# Altium schematic symbol library SCH - MCU - STM32 - ST MICROELECTRONICS STM32F217Z(E-G)TX LQFP144.SchLib: 1 symbol
Pins are listed as number, name and electrical type; pins without a type are passive.

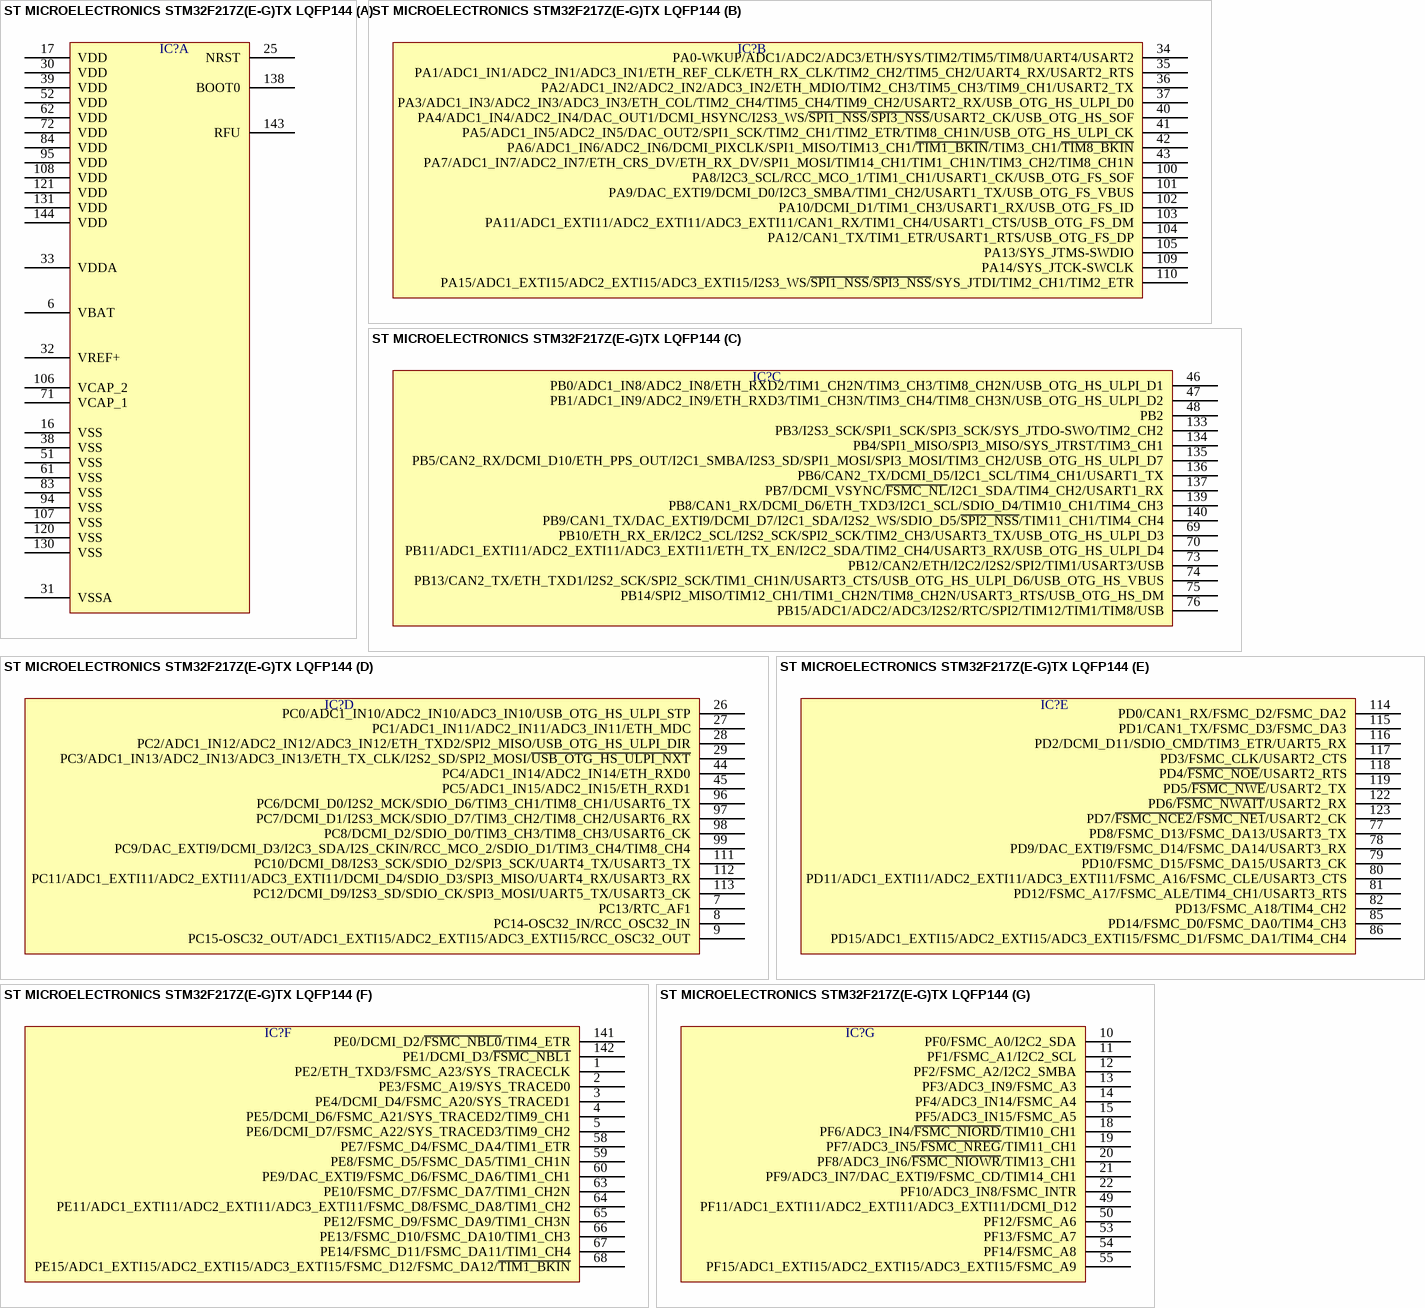
[diagram p0: symbol ST MICROELECTRONICS STM32F217Z(E-G)TX LQFP144]

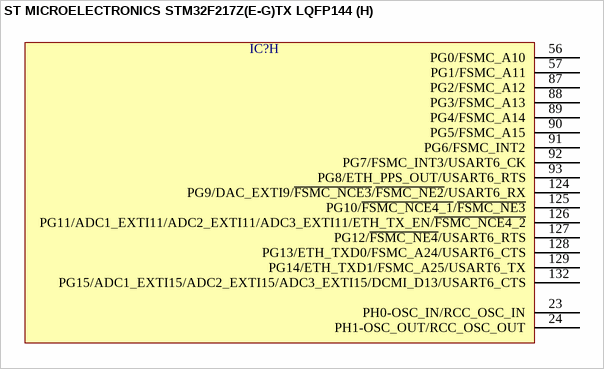
[diagram p1: symbol ST MICROELECTRONICS STM32F217Z(E-G)TX LQFP144]

## ST MICROELECTRONICS STM32F217Z(E-G)TX LQFP144
designator IC?  (value not drawn)
part A pins: 6 VBAT, 16 VSS, 17 VDD, 25 NRST, 30 VDD, 31 VSSA, 32 VREF+, 33 VDDA, 38 VSS, 39 VDD, 51 VSS, 52 VDD, 61 VSS, 62 VDD, 71 VCAP_1, 72 VDD, 83 VSS, 84 VDD, 94 VSS, 95 VDD, 106 VCAP_2, 107 VSS, 108 VDD, 120 VSS, 121 VDD, 130 VSS, 131 VDD, 138 BOOT0, 143 RFU, 144 VDD
part B pins: 34 PA0-WKUP/ADC1/ADC2/ADC3/ETH/SYS/TIM2/TIM5/TIM8/UART4/USART2, 35 PA1/ADC1_IN1/ADC2_IN1/ADC3_IN1/ETH_REF_CLK/ETH_RX_CLK/TIM2_CH2/TIM5_CH2/UART4_RX/USART2_RTS, 36 PA2/ADC1_IN2/ADC2_IN2/ADC3_IN2/ETH_MDIO/TIM2_CH3/TIM5_CH3/TIM9_CH1/USART2_TX, 37 PA3/ADC1_IN3/ADC2_IN3/ADC3_IN3/ETH_COL/TIM2_CH4/TIM5_CH4/TIM9_CH2/USART2_RX/USB_OTG_HS_ULPI_D0, 40 PA4/ADC1_IN4/ADC2_IN4/DAC_OUT1/DCMI_HSYNC/I2S3_WS/~{SPI1_NSS}/~{SPI3_NSS}/USART2_CK/USB_OTG_HS_SOF, 41 PA5/ADC1_IN5/ADC2_IN5/DAC_OUT2/SPI1_SCK/TIM2_CH1/TIM2_ETR/TIM8_CH1N/USB_OTG_HS_ULPI_CK, 42 PA6/ADC1_IN6/ADC2_IN6/DCMI_PIXCLK/SPI1_MISO/TIM13_CH1/~{TIM1_BKIN}/TIM3_CH1/~{TIM8_BKIN}, 43 PA7/ADC1_IN7/ADC2_IN7/ETH_CRS_DV/ETH_RX_DV/SPI1_MOSI/TIM14_CH1/TIM1_CH1N/TIM3_CH2/TIM8_CH1N, 100 PA8/I2C3_SCL/RCC_MCO_1/TIM1_CH1/USART1_CK/USB_OTG_FS_SOF, 101 PA9/DAC_EXTI9/DCMI_D0/I2C3_SMBA/TIM1_CH2/USART1_TX/USB_OTG_FS_VBUS, 102 PA10/DCMI_D1/TIM1_CH3/USART1_RX/USB_OTG_FS_ID, 103 PA11/ADC1_EXTI11/ADC2_EXTI11/ADC3_EXTI11/CAN1_RX/TIM1_CH4/USART1_CTS/USB_OTG_FS_DM, 104 PA12/CAN1_TX/TIM1_ETR/USART1_RTS/USB_OTG_FS_DP, 105 PA13/SYS_JTMS-SWDIO, 109 PA14/SYS_JTCK-SWCLK, 110 PA15/ADC1_EXTI15/ADC2_EXTI15/ADC3_EXTI15/I2S3_WS/~{SPI1_NSS}/~{SPI3_NSS}/SYS_JTDI/TIM2_CH1/TIM2_ETR
part C pins: 46 PB0/ADC1_IN8/ADC2_IN8/ETH_RXD2/TIM1_CH2N/TIM3_CH3/TIM8_CH2N/USB_OTG_HS_ULPI_D1, 47 PB1/ADC1_IN9/ADC2_IN9/ETH_RXD3/TIM1_CH3N/TIM3_CH4/TIM8_CH3N/USB_OTG_HS_ULPI_D2, 48 PB2, 69 PB10/ETH_RX_ER/I2C2_SCL/I2S2_SCK/SPI2_SCK/TIM2_CH3/USART3_TX/USB_OTG_HS_ULPI_D3, 70 PB11/ADC1_EXTI11/ADC2_EXTI11/ADC3_EXTI11/ETH_TX_EN/I2C2_SDA/TIM2_CH4/USART3_RX/USB_OTG_HS_ULPI_D4, 73 PB12/CAN2/ETH/I2C2/I2S2/SPI2/TIM1/USART3/USB, 74 PB13/CAN2_TX/ETH_TXD1/I2S2_SCK/SPI2_SCK/TIM1_CH1N/USART3_CTS/USB_OTG_HS_ULPI_D6/USB_OTG_HS_VBUS, 75 PB14/SPI2_MISO/TIM12_CH1/TIM1_CH2N/TIM8_CH2N/USART3_RTS/USB_OTG_HS_DM, 76 PB15/ADC1/ADC2/ADC3/I2S2/RTC/SPI2/TIM12/TIM1/TIM8/USB, 133 PB3/I2S3_SCK/SPI1_SCK/SPI3_SCK/SYS_JTDO-SWO/TIM2_CH2, 134 PB4/SPI1_MISO/SPI3_MISO/SYS_JTRST/TIM3_CH1, 135 PB5/CAN2_RX/DCMI_D10/ETH_PPS_OUT/I2C1_SMBA/I2S3_SD/SPI1_MOSI/SPI3_MOSI/TIM3_CH2/USB_OTG_HS_ULPI_D7, 136 PB6/CAN2_TX/DCMI_D5/I2C1_SCL/TIM4_CH1/USART1_TX, 137 PB7/DCMI_VSYNC/~{FSMC_NL}/I2C1_SDA/TIM4_CH2/USART1_RX, 139 PB8/CAN1_RX/DCMI_D6/ETH_TXD3/I2C1_SCL/SDIO_D4/TIM10_CH1/TIM4_CH3, 140 PB9/CAN1_TX/DAC_EXTI9/DCMI_D7/I2C1_SDA/I2S2_WS/SDIO_D5/~{SPI2_NSS}/TIM11_CH1/TIM4_CH4
part D pins: 7 PC13/RTC_AF1, 8 PC14-OSC32_IN/RCC_OSC32_IN, 9 PC15-OSC32_OUT/ADC1_EXTI15/ADC2_EXTI15/ADC3_EXTI15/RCC_OSC32_OUT, 26 PC0/ADC1_IN10/ADC2_IN10/ADC3_IN10/USB_OTG_HS_ULPI_STP, 27 PC1/ADC1_IN11/ADC2_IN11/ADC3_IN11/ETH_MDC, 28 PC2/ADC1_IN12/ADC2_IN12/ADC3_IN12/ETH_TXD2/SPI2_MISO/USB_OTG_HS_ULPI_DIR, 29 PC3/ADC1_IN13/ADC2_IN13/ADC3_IN13/ETH_TX_CLK/I2S2_SD/SPI2_MOSI/~{USB_OTG_HS_ULPI_NXT}, 44 PC4/ADC1_IN14/ADC2_IN14/ETH_RXD0, 45 PC5/ADC1_IN15/ADC2_IN15/ETH_RXD1, 96 PC6/DCMI_D0/I2S2_MCK/SDIO_D6/TIM3_CH1/TIM8_CH1/USART6_TX, 97 PC7/DCMI_D1/I2S3_MCK/SDIO_D7/TIM3_CH2/TIM8_CH2/USART6_RX, 98 PC8/DCMI_D2/SDIO_D0/TIM3_CH3/TIM8_CH3/USART6_CK, 99 PC9/DAC_EXTI9/DCMI_D3/I2C3_SDA/I2S_CKIN/RCC_MCO_2/SDIO_D1/TIM3_CH4/TIM8_CH4, 111 PC10/DCMI_D8/I2S3_SCK/SDIO_D2/SPI3_SCK/UART4_TX/USART3_TX, 112 PC11/ADC1_EXTI11/ADC2_EXTI11/ADC3_EXTI11/DCMI_D4/SDIO_D3/SPI3_MISO/UART4_RX/USART3_RX, 113 PC12/DCMI_D9/I2S3_SD/SDIO_CK/SPI3_MOSI/UART5_TX/USART3_CK
part E pins: 77 PD8/FSMC_D13/FSMC_DA13/USART3_TX, 78 PD9/DAC_EXTI9/FSMC_D14/FSMC_DA14/USART3_RX, 79 PD10/FSMC_D15/FSMC_DA15/USART3_CK, 80 PD11/ADC1_EXTI11/ADC2_EXTI11/ADC3_EXTI11/FSMC_A16/FSMC_CLE/USART3_CTS, 81 PD12/FSMC_A17/FSMC_ALE/TIM4_CH1/USART3_RTS, 82 PD13/FSMC_A18/TIM4_CH2, 85 PD14/FSMC_D0/FSMC_DA0/TIM4_CH3, 86 PD15/ADC1_EXTI15/ADC2_EXTI15/ADC3_EXTI15/FSMC_D1/FSMC_DA1/TIM4_CH4, 114 PD0/CAN1_RX/FSMC_D2/FSMC_DA2, 115 PD1/CAN1_TX/FSMC_D3/FSMC_DA3, 116 PD2/DCMI_D11/SDIO_CMD/TIM3_ETR/UART5_RX, 117 PD3/FSMC_CLK/USART2_CTS, 118 PD4/~{FSMC_NOE}/USART2_RTS, 119 PD5/~{FSMC_NWE}/USART2_TX, 122 PD6/~{FSMC_NWAIT}/USART2_RX, 123 PD7/~{FSMC_NCE2}/~{FSMC_NE1}/USART2_CK
part F pins: 1 PE2/ETH_TXD3/FSMC_A23/SYS_TRACECLK, 2 PE3/FSMC_A19/SYS_TRACED0, 3 PE4/DCMI_D4/FSMC_A20/SYS_TRACED1, 4 PE5/DCMI_D6/FSMC_A21/SYS_TRACED2/TIM9_CH1, 5 PE6/DCMI_D7/FSMC_A22/SYS_TRACED3/TIM9_CH2, 58 PE7/FSMC_D4/FSMC_DA4/TIM1_ETR, 59 PE8/FSMC_D5/FSMC_DA5/TIM1_CH1N, 60 PE9/DAC_EXTI9/FSMC_D6/FSMC_DA6/TIM1_CH1, 63 PE10/FSMC_D7/FSMC_DA7/TIM1_CH2N, 64 PE11/ADC1_EXTI11/ADC2_EXTI11/ADC3_EXTI11/FSMC_D8/FSMC_DA8/TIM1_CH2, 65 PE12/FSMC_D9/FSMC_DA9/TIM1_CH3N, 66 PE13/FSMC_D10/FSMC_DA10/TIM1_CH3, 67 PE14/FSMC_D11/FSMC_DA11/TIM1_CH4, 68 PE15/ADC1_EXTI15/ADC2_EXTI15/ADC3_EXTI15/FSMC_D12/FSMC_DA12/~{TIM1_BKIN}, 141 PE0/DCMI_D2/~{FSMC_NBL0}/TIM4_ETR, 142 PE1/DCMI_D3/~{FSMC_NBL1}
part G pins: 10 PF0/FSMC_A0/I2C2_SDA, 11 PF1/FSMC_A1/I2C2_SCL, 12 PF2/FSMC_A2/I2C2_SMBA, 13 PF3/ADC3_IN9/FSMC_A3, 14 PF4/ADC3_IN14/FSMC_A4, 15 PF5/ADC3_IN15/FSMC_A5, 18 PF6/ADC3_IN4/~{FSMC_NIORD}/TIM10_CH1, 19 PF7/ADC3_IN5/~{FSMC_NREG}/TIM11_CH1, 20 PF8/ADC3_IN6/~{FSMC_NIOWR}/TIM13_CH1, 21 PF9/ADC3_IN7/DAC_EXTI9/FSMC_CD/TIM14_CH1, 22 PF10/ADC3_IN8/FSMC_INTR, 49 PF11/ADC1_EXTI11/ADC2_EXTI11/ADC3_EXTI11/DCMI_D12, 50 PF12/FSMC_A6, 53 PF13/FSMC_A7, 54 PF14/FSMC_A8, 55 PF15/ADC1_EXTI15/ADC2_EXTI15/ADC3_EXTI15/FSMC_A9
part H pins: 23 PH0-OSC_IN/RCC_OSC_IN, 24 PH1-OSC_OUT/RCC_OSC_OUT, 56 PG0/FSMC_A10, 57 PG1/FSMC_A11, 87 PG2/FSMC_A12, 88 PG3/FSMC_A13, 89 PG4/FSMC_A14, 90 PG5/FSMC_A15, 91 PG6/FSMC_INT2, 92 PG7/FSMC_INT3/USART6_CK, 93 PG8/ETH_PPS_OUT/USART6_RTS, 124 PG9/DAC_EXTI9/~{FSMC_NCE3}/~{FSMC_NE2}/USART6_RX, 125 PG10/~{FSMC_NCE4_1}/~{FSMC_NE3}, 126 PG11/ADC1_EXTI11/ADC2_EXTI11/ADC3_EXTI11/ETH_TX_EN/~{FSMC_NCE4_2}, 127 PG12/~{FSMC_NE4}/USART6_RTS, 128 PG13/ETH_TXD0/FSMC_A24/USART6_CTS, 129 PG14/ETH_TXD1/FSMC_A25/USART6_TX, 132 PG15/ADC1_EXTI15/ADC2_EXTI15/ADC3_EXTI15/DCMI_D13/USART6_CTS